# Altium schematic symbol library DS26C32ATM.Schlib: 1 symbol
Pins are listed as number, name and electrical type; pins without a type are passive.

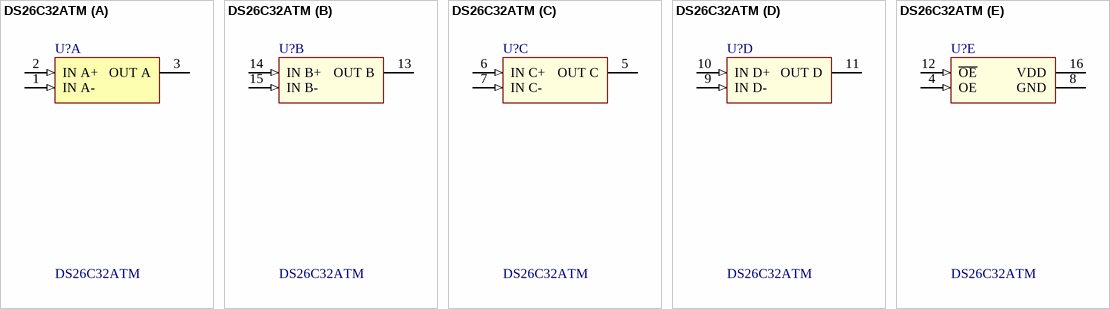
[diagram p0: symbol DS26C32ATM]

## DS26C32ATM
designator U?
CMOS Quad Differential Line Receivers, 16-pin Narrow SOIC, Pb-Free
part A pins: 1 IN A- (in), 2 IN A+ (in), 3 OUT A (hiz)
part B pins: 13 OUT B (hiz), 14 IN B+ (in), 15 IN B- (in)
part C pins: 5 OUT C (hiz), 6 IN C+ (in), 7 IN C- (in)
part D pins: 9 IN D- (in), 10 IN D+ (in), 11 OUT D (hiz)
part E pins: 4 OE (in), 8 GND (power), 12 ~{OE} (in), 16 VDD (power)